# Altium footprint library B_LS-1WR3.PcbLib: 1 footprints
Each footprint in its own frame and in the unit in brackets; x right, y up, seen from the top. Pads: shape width x height; smd on the part's side, far side on the other; paste and mask are expansions set on the pad; w line width, h text height; cw(c..) or ccw(c..) is an arc to the next point about the centre after c.
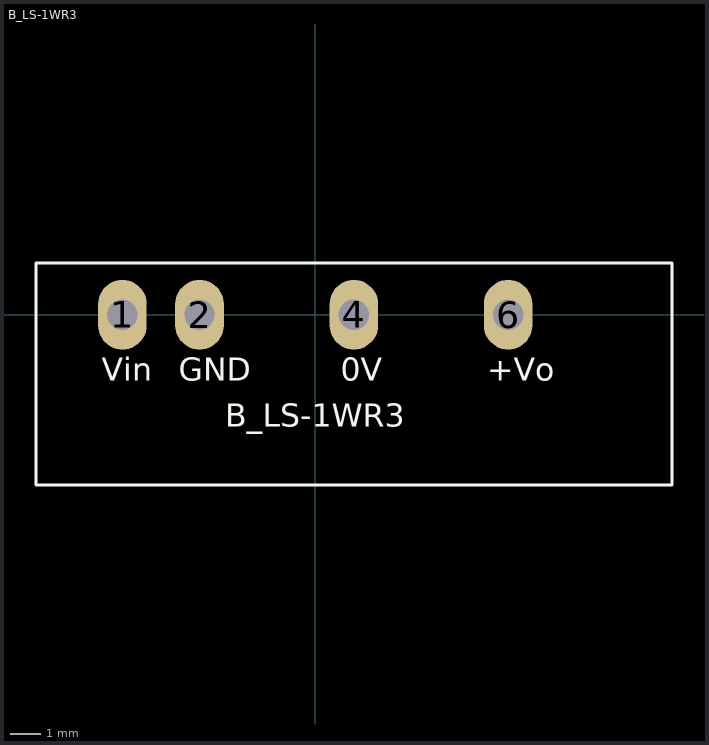
[diagram p0: the footprint, top view; thin cyan lines are the x and y axes]

## B_LS-1WR3 [mm]
pads (4):
  oval 1.6x2.3 hole 1: 1(-6.35,0) 2(-3.81,0) 4(1.27,0) 6(6.35,0)
Top Overlay:
  lines w0.1: -9.2,-5.6 11.75,-5.6 11.75,1.7 -9.2,1.7 -9.2,-5.6
  text "B_LS-1WR3" at -2.97,-3.688 h0.76
  text "+Vo" at 5.666,-2.164 h0.76
  text "0V" at 0.84,-2.164 h0.76
  text "GND" at -4.494,-2.164 h0.76
  text "Vin" at -7.034,-2.164 h0.76
3D body: height 10.16, standoff -4.1, extent -8.582,-5.109 11.068,0.891